# EAGLE library part H550 (library relay)
RELAY bistable, 1 x switch, high current
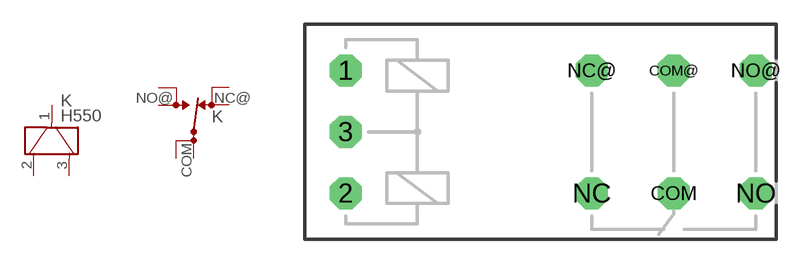
[diagram p0: symbol with the pads of H550; footprint H550]

Designator prefix K; gates 1=KD 2=UD

## H550  [H550]
1  1:1  pas
2  1:2  pas
3  1:3  pas
COM  2:COM  pas
COM@  2:COM  pas
NC  2:NC  pas
NC@  2:NC  pas
NO  2:NO  pas
NO@  2:NO  pas

## Footprint H550 (pad centres in mm)
RELAY bistable, 1 x switch, high current
drill 1.321 octagon: 1 -7.62,3.81; 2 -7.62,-3.81; 3 -7.62,0; COM 12.7,-3.81; COM@ 12.7,3.81; NC 7.62,-3.81; NC@ 7.62,3.81; NO 17.78,-3.81; NO@ 17.78,3.81